# EAGLE library part MCP3422-XXXX_MS (library mcp3426)
analog digital converter MCP3426
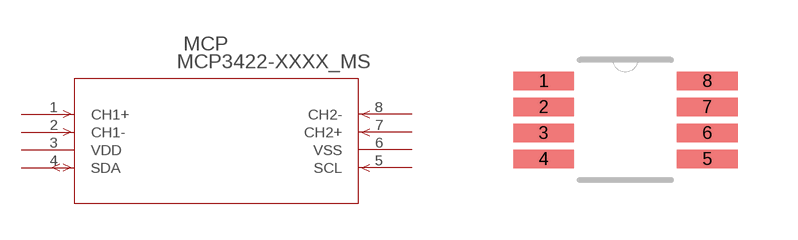
[diagram p0: symbol with the pads of MSOP8_MC; footprint MSOP8_MC]

Designator prefix MCP

## MCP3422-XXXX_MS  [MSOP8_MC]
1  CH1+  in
2  CH1-  in
3  VDD  pwr
4  SDA
5  SCL  in
6  VSS  pwr
7  CH2+  in
8  CH2-  in

## Footprint MSOP8_MC (pad centres in mm)
smd 1.524 x 0.457: 1 -2.045,0.975; 2 -2.045,0.325; 3 -2.045,-0.325; 4 -2.045,-0.975; 5 2.045,-0.975; 6 2.045,-0.325; 7 2.045,0.325; 8 2.045,0.975